# Altium schematic symbol library CustomizedLib.SchLib: 16 symbols
Pins are listed as number, name and electrical type; pins without a type are passive.

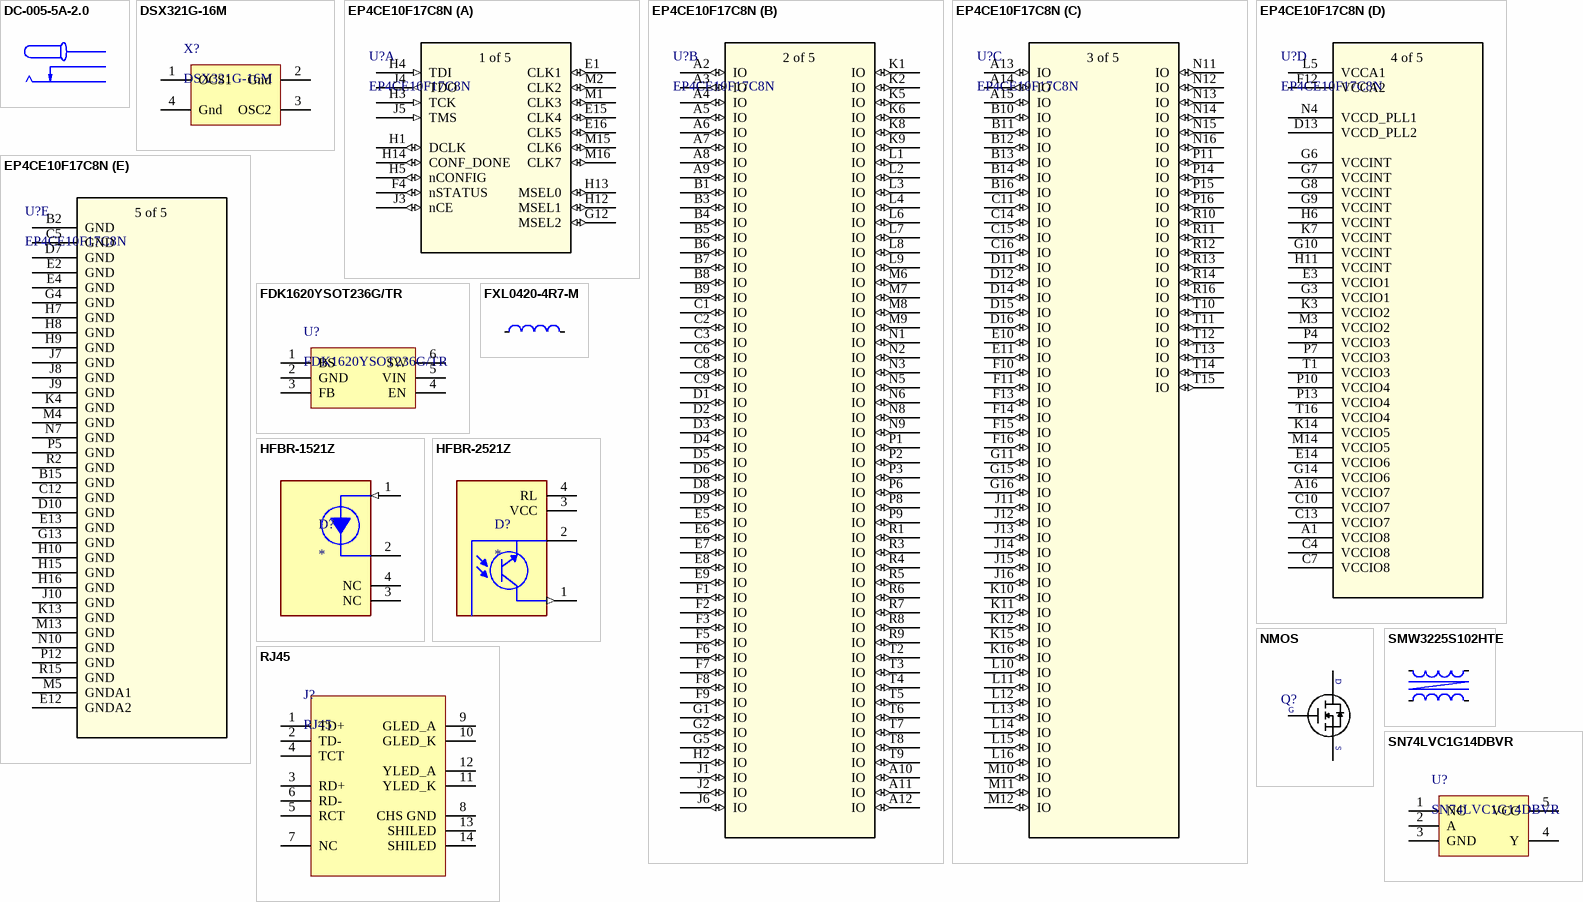
[diagram p0: symbols DC-005-5A-2.0 to SN74LVC1G14DBVR]

## DC-005-5A-2.0
designator DC??  (value not drawn)
Manufacturer: XKB Connection(中国星坤); Add into BOM: yes; Connector Type: DC电源插座; Inside Contact Diameter: 2mm; Outside Contact Diameter: 6.2mm; Current Rating (Max): 5A; Voltage Rating (Max): 24V; Symbol: DC-005-5A-2.0; Device: DC-005-5A-2.0; LCSC Part Name: DC电源插座 内径:2mm 外径:6.2mm; Supplier Part: C381116; Manufacturer Part: DC-005-5A-2.0; Supplier Footprint: 插件; JLCPCB Part Class: Extended Part; Datasheet: https://atta.szlcsc.com/upload/public/pdf/source/20211015/707A35F7AB6E89C57AAB641950105BB7.pdf; Supplier: LCSC; Convert to PCB: yes; Mounting Style: 弯插; Operating Temperature Range: -20℃~+70℃
footprint DC-IN-TH_DC-005-5A-2.0
pins: 1, 2, 3

## DSX321G-16M
designator X?
无源晶振
footprint SMD3225-4 (Diode, Dual Flat No-Lead, 0.75 mm Pitch, 4 pin; 1.20 mm L X 0.775 mm W X 0.40 mm H body)
pins: 1 OCS1, 2 Gnd, 3 OSC2, 4 Gnd

## EP4CE10F17C8N
designator U?
No Description Available; Manufacturer_Name: Intel; Copyright: Copyright (C) 2025 Ultra Librarian. All rights reserved.; Manufacturer_Part_Number: EP4CE10F17C8N; RefDes: RefDes; Type: Type
footprint FBGA256
part A pins: E1 CLK1 (io), E15 CLK4 (io), E16 CLK5 (io), F4 nSTATUS (io), G12 MSEL2 (io), H1 DCLK (io), H3 TCK (in), H4 TDI (in), H5 nCONFIG (io), H12 MSEL1 (io), H13 MSEL0 (io), H14 CONF_DONE (io), J3 nCE (io), J4 TDO (out), J5 TMS (in), M1 CLK3 (io), M2 CLK2 (io), M15 CLK6 (io), M16 CLK7 (io)
part B pins: A2 IO (io), A3 IO (io), A4 IO (io), A5 IO (io), A6 IO (io), A7 IO (io), A8 IO (io), A9 IO (io), A10 IO (io), A11 IO (io), A12 IO (io), B1 IO (io), B3 IO (io), B4 IO (io), B5 IO (io), B6 IO (io), B7 IO (io), B8 IO (io), B9 IO (io), C1 IO (io), C2 IO (io), C3 IO (io), C6 IO (io), C8 IO (io), C9 IO (io), D1 IO (io), D2 IO (io), D3 IO (io), D4 IO (io), D5 IO (io), D6 IO (io), D8 IO (io), D9 IO (io), E5 IO (io), E6 IO (io), E7 IO (io), E8 IO (io), E9 IO (io), F1 IO (io), F2 IO (io), F3 IO (io), F5 IO (io), F6 IO (io), F7 IO (io), F8 IO (io), F9 IO (io), G1 IO (io), G2 IO (io), G5 IO (io), H2 IO (io), J1 IO (io), J2 IO (io), J6 IO (io), K1 IO (io), K2 IO (io), K5 IO (io), K6 IO (io), K8 IO (io), K9 IO (io), L1 IO (io), L2 IO (io), L3 IO (io), L4 IO (io), L6 IO (io), L7 IO (io), L8 IO (io), L9 IO (io), M6 IO (io), M7 IO (io), M8 IO (io), M9 IO (io), N1 IO (io), N2 IO (io), N3 IO (io), N5 IO (io), N6 IO (io), N8 IO (io), N9 IO (io), P1 IO (io), P2 IO (io), P3 IO (io), P6 IO (io), P8 IO (io), P9 IO (io), R1 IO (io), R3 IO (io), R4 IO (io), R5 IO (io), R6 IO (io), R7 IO (io), R8 IO (io), R9 IO (io), T2 IO (io), T3 IO (io), T4 IO (io), T5 IO (io), T6 IO (io), T7 IO (io), T8 IO (io), T9 IO (io)
part C pins: A13 IO (io), A14 IO (io), A15 IO (io), B10 IO (io), B11 IO (io), B12 IO (io), B13 IO (io), B14 IO (io), B16 IO (io), C11 IO (io), C14 IO (io), C15 IO (io), C16 IO (io), D11 IO (io), D12 IO (io), D14 IO (io), D15 IO (io), D16 IO (io), E10 IO (io), E11 IO (io), F10 IO (io), F11 IO (io), F13 IO (io), F14 IO (io), F15 IO (io), F16 IO (io), G11 IO (io), G15 IO (io), G16 IO (io), J11 IO (io), J12 IO (io), J13 IO (io), J14 IO (io), J15 IO (io), J16 IO (io), K10 IO (io), K11 IO (io), K12 IO (io), K15 IO (io), K16 IO (io), L10 IO (io), L11 IO (io), L12 IO (io), L13 IO (io), L14 IO (io), L15 IO (io), L16 IO (io), M10 IO (io), M11 IO (io), M12 IO (io), N11 IO (io), N12 IO (io), N13 IO (io), N14 IO (io), N15 IO (io), N16 IO (io), P11 IO (io), P14 IO (io), P15 IO (io), P16 IO (io), R10 IO (io), R11 IO (io), R12 IO (io), R13 IO (io), R14 IO (io), R16 IO (io), T10 IO (io), T11 IO (io), T12 IO (io), T13 IO (io), T14 IO (io), T15 IO (io)
part D pins: A1 VCCIO8 (power), A16 VCCIO7 (power), C4 VCCIO8 (power), C7 VCCIO8 (power), C10 VCCIO7 (power), C13 VCCIO7 (power), D13 VCCD_PLL2 (power), E3 VCCIO1 (power), E14 VCCIO6 (power), F12 VCCA2 (power), G3 VCCIO1 (power), G6 VCCINT (power), G7 VCCINT (power), G8 VCCINT (power), G9 VCCINT (power), G10 VCCINT (power), G14 VCCIO6 (power), H6 VCCINT (power), H11 VCCINT (power), K3 VCCIO2 (power), K7 VCCINT (power), K14 VCCIO5 (power), L5 VCCA1 (power), M3 VCCIO2 (power), M14 VCCIO5 (power), N4 VCCD_PLL1 (power), P4 VCCIO3 (power), P7 VCCIO3 (power), P10 VCCIO4 (power), P13 VCCIO4 (power), T1 VCCIO3 (power), T16 VCCIO4 (power)
part E pins: B2 GND (power), B15 GND (power), C5 GND (power), C12 GND (power), D7 GND (power), D10 GND (power), E2 GND (power), E4 GND (power), E12 GNDA2 (power), E13 GND (power), G4 GND (power), G13 GND (power), H7 GND (power), H8 GND (power), H9 GND (power), H10 GND (power), H15 GND (power), H16 GND (power), J7 GND (power), J8 GND (power), J9 GND (power), J10 GND (power), K4 GND (power), K13 GND (power), M4 GND (power), M5 GNDA1 (power), M13 GND (power), N7 GND (power), N10 GND (power), P5 GND (power), P12 GND (power), R2 GND (power), R15 GND (power)
part A text: 1 of 5
part B text: 2 of 5
part C text: 3 of 5
part D text: 4 of 5
part E text: 5 of 5

## FDK1620YSOT236G/TR
designator U?
DC/DC Converter
footprint SOT23-6 (Small Outline Transistor, SOT-23 Type, 0.95 mm pitch; 6 pin, 2.92 mm L X 1.60 mm W X 1.25 mm H body)
pins: 1 BS, 2 GND, 3 FB, 4 EN, 5 VIN, 6 SW

## FXL0420-4R7-M
designator L?, comment 4.7uH  (value not drawn)
Manufacturer: cjiang(长江微电); Symbol: FXL0530-100-M; Add into BOM: yes; Value: 10uH; Tolerance: ±20%; Rated Current: 3.2A; Saturation Current (Isat): 3.5A; DC Resistance (DCR): 125mΩ; Type: 一体成型电感; Device: FXL0530-100-M; LCSC Part Name: 10uH ±20% 3.5A; Supplier Part: C177248; Manufacturer Part: FXL0530-100-M; Supplier Footprint: SMD,5.2x5.4mm; JLCPCB Part Class: Extended Part; Datasheet: https://atta.szlcsc.com/upload/public/pdf/source/20240426/3189EA8206330E2108542F9E34E540E7.pdf; Supplier: LCSC; Convert to PCB: yes
footprint L0420 (Inductor, Dual Flat No-Lead (DFN) 2 pins; 4.40 mm L X 4.20 mm W X 1.80 mm H body)
pins: 1, 2

## HFBR-1521Z
designator D?
Versatile Link Fiber-Optic Connection; MF: Broadcom Limited; MP: HFBR-2521Z; SnapEDA_Link: https://www.snapeda.com/parts/HFBR-2521Z/Broadcom/view-part/?ref=snap; Package: None; Value: *; Check_prices: https://www.snapeda.com/parts/HFBR-2521Z/Broadcom/view-part/?ref=eda
footprint HFBR_1521Z (Footprint not found)
pins: 1 VO (in), 2 GROUND (power), 3 NC (power), 4 NC

## HFBR-2521Z
designator D?
Versatile Link Fiber-Optic Connection; MF: Broadcom Limited; MP: HFBR-2521Z; SnapEDA_Link: https://www.snapeda.com/parts/HFBR-2521Z/Broadcom/view-part/?ref=snap; Package: None; Value: *; Check_prices: https://www.snapeda.com/parts/HFBR-2521Z/Broadcom/view-part/?ref=eda
footprint HFBR_2521Z (Footprint not found)
pins: 1 VO (out), 2 GROUND (power), 3 VCC (power), 4 RL

## NMOS
designator Q?
footprint SOT23-3 (Small Outline Transistor, SOT-23 Type, 0.95 mm pitch; 3 pin, 2.90 mm L X 1.30 mm W X 1.15 mm H body)
pins: 1, 2, 3
text: D; G; S

## RJ45
designator J?
HR911105A HANREN
footprint 1105A_HAN
pins: 1 TD+, 2 TD-, 3 RD+, 4 TCT, 5 RCT, 6 RD-, 7 NC, 8 CHS GND, 9 GLED_A, 10 GLED_K, 11 YLED_K, 12 YLED_A, 13 SHILED, 14 SHILED

## SMW3225S102HTE
designator L?  (value not drawn)
1.2A; Manufacturer: cjiang(长江微电); Symbol: FXL0530-100-M; Add into BOM: yes; Value: 10uH; Tolerance: ±20%; Rated Current: 3.2A; Saturation Current (Isat): 3.5A; DC Resistance (DCR): 125mΩ; Type: 一体成型电感; Device: FXL0530-100-M; LCSC Part Name: 10uH ±20% 3.5A; Supplier Part: C177248; Manufacturer Part: FXL0530-100-M; Supplier Footprint: SMD,5.2x5.4mm; JLCPCB Part Class: Extended Part; Datasheet: https://atta.szlcsc.com/upload/public/pdf/source/20240426/3189EA8206330E2108542F9E34E540E7.pdf; Supplier: LCSC; Convert to PCB: yes
footprint INDDFN4_320X250X240L65X80N (Inductor, Dual Flat No-Lead (DFN) 4 pins, 2.55 mm pitch; 3.20 mm L X 2.50 mm W X 2.40 mm H body)
pins: 1, 2, 3, 4

## SN74LVC1G14DBVR
designator U?
Y=A\
footprint SOT23-5 (Small Outline Transistor, SOT-23 Type, 0.95 mm pitch; 5 pin, 2.90 mm L X 1.60 mm W X 1.45 mm H body)
pins: 1 NC, 2 A, 3 GND, 4 Y, 5 VCC

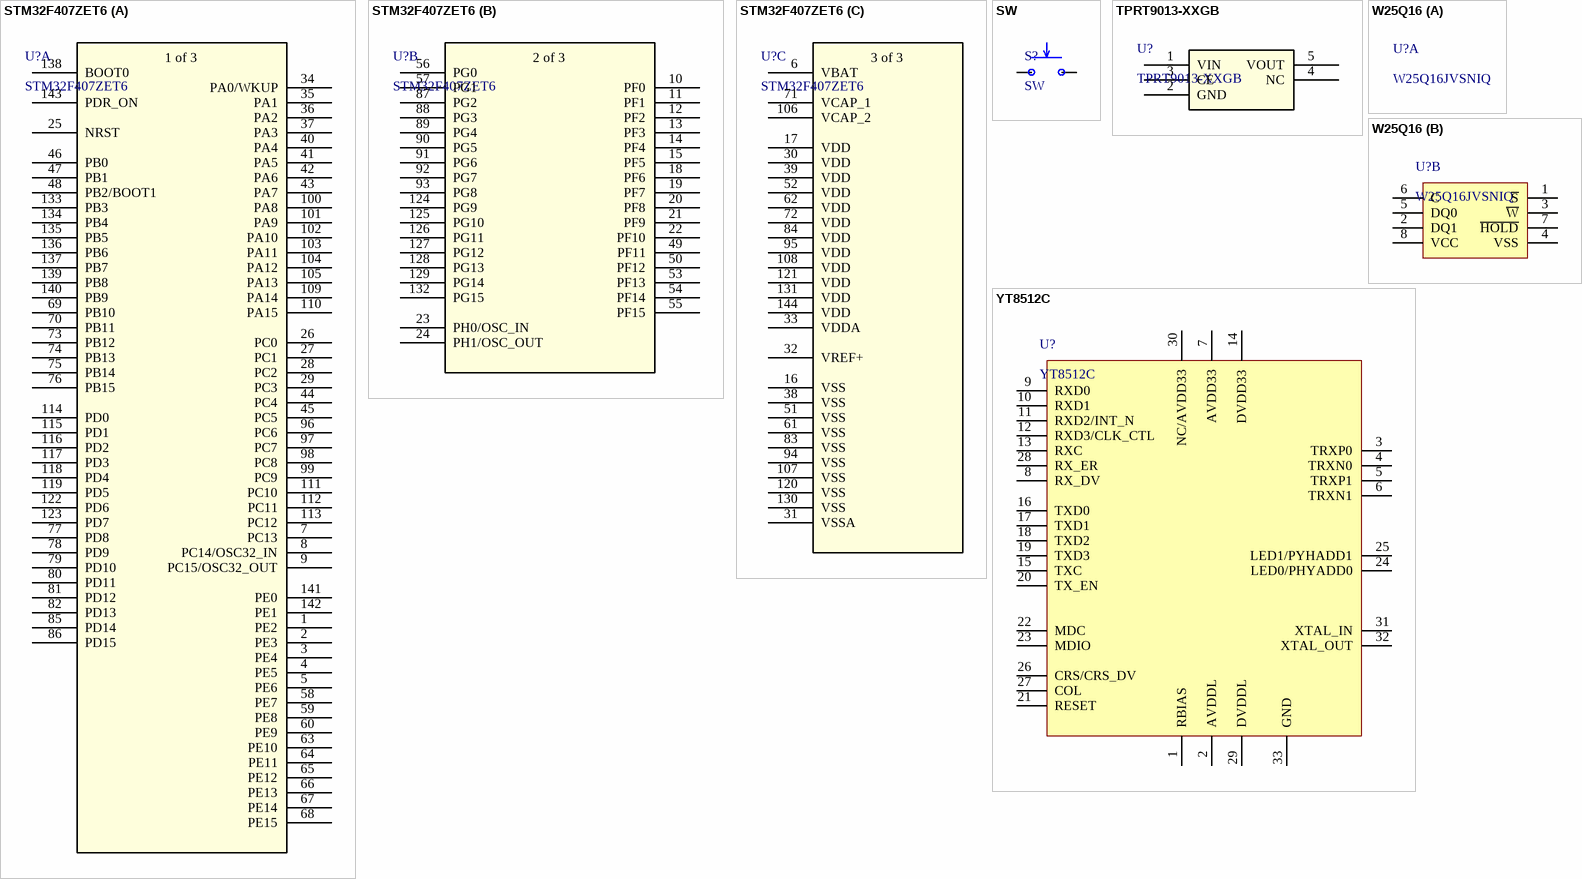
[diagram p1: symbols STM32F407ZET6 to YT8512C]

## STM32F407ZET6
designator U?
High-performance foundation line, Arm Cortex-M4 core with DSP and FPU, 512 Kbytes of Flash memory, 168 MHz CPU, ART Accelerator, Ethernet, FSMC; Manufacturer_Name: STMicroelectronics; Copyright: Copyright (C) 2025 Ultra Librarian. All rights reserved.; Manufacturer_Part_Number: STM32F407ZET6; Datasheet: https://www.st.com/resource/en/datasheet/stm32f405rg.pdf; RefDes: RefDes; Type: Type
footprint LQFP144-20x20mm
part A pins: 1 PE2, 2 PE3, 3 PE4, 4 PE5, 5 PE6, 7 PC13, 8 PC14/OSC32_IN, 9 PC15/OSC32_OUT, 25 NRST, 26 PC0, 27 PC1, 28 PC2, 29 PC3, 34 PA0/WKUP, 35 PA1, 36 PA2, 37 PA3, 40 PA4, 41 PA5, 42 PA6, 43 PA7, 44 PC4, 45 PC5, 46 PB0, 47 PB1, 48 PB2/BOOT1, 58 PE7, 59 PE8, 60 PE9, 63 PE10, 64 PE11, 65 PE12, 66 PE13, 67 PE14, 68 PE15, 69 PB10, 70 PB11, 73 PB12, 74 PB13, 75 PB14, 76 PB15, 77 PD8, 78 PD9, 79 PD10, 80 PD11, 81 PD12, 82 PD13, 85 PD14, 86 PD15, 96 PC6, 97 PC7, 98 PC8, 99 PC9, 100 PA8, 101 PA9, 102 PA10, 103 PA11, 104 PA12, 105 PA13, 109 PA14, 110 PA15, 111 PC10, 112 PC11, 113 PC12, 114 PD0, 115 PD1, 116 PD2, 117 PD3, 118 PD4, 119 PD5, 122 PD6, 123 PD7, 133 PB3, 134 PB4, 135 PB5, 136 PB6, 137 PB7, 138 BOOT0, 139 PB8, 140 PB9, 141 PE0, 142 PE1, 143 PDR_ON
part B pins: 10 PF0, 11 PF1, 12 PF2, 13 PF3, 14 PF4, 15 PF5, 18 PF6, 19 PF7, 20 PF8, 21 PF9, 22 PF10, 23 PH0/OSC_IN, 24 PH1/OSC_OUT, 49 PF11, 50 PF12, 53 PF13, 54 PF14, 55 PF15, 56 PG0, 57 PG1, 87 PG2, 88 PG3, 89 PG4, 90 PG5, 91 PG6, 92 PG7, 93 PG8, 124 PG9, 125 PG10, 126 PG11, 127 PG12, 128 PG13, 129 PG14, 132 PG15
part C pins: 6 VBAT (power), 16 VSS (power), 17 VDD (power), 30 VDD (power), 31 VSSA (power), 32 VREF+ (power), 33 VDDA (power), 38 VSS (power), 39 VDD (power), 51 VSS (power), 52 VDD (power), 61 VSS (power), 62 VDD (power), 71 VCAP_1 (power), 72 VDD (power), 83 VSS (power), 84 VDD (power), 94 VSS (power), 95 VDD (power), 106 VCAP_2 (power), 107 VSS (power), 108 VDD (power), 120 VSS (power), 121 VDD (power), 130 VSS (power), 131 VDD (power), 144 VDD (power)
part A text: 1 of 3
part B text: 2 of 3
part C text: 3 of 3

## SW
designator S?
footprint SW-SMD (L6.0-W3.3-LS8.0)
pins: 1, 2

## TPRT9013-XXGB
designator U?
No Description Available; Manufacturer_Name: Tech Public; Manufacturer_Part_Number: TPRT9013-33GB; Type: Power Management; Copyright: Copyright (C) 2025 Ultra Librarian. All rights reserved.; RefDes: RefDes
footprint SOT23-5
pins: 1 VIN (power), 2 GND (power), 3 CE, 4 NC, 5 VOUT (power)

## W25Q16
designator U?, comment W25Q16JVSNIQ
footprint SOIC8 (Small Outline Pkg (SOP), 0.65 mm pitch; 24 pin, 7.80 mm L X 4.40 mm W X 1.20 mm H body)
part B pins: 1 ~{S}, 2 DQ1, 3 ~{W}, 4 VSS, 5 DQ0, 6 C, 7 ~{HOLD}, 8 VCC

## YT8512C
designator U?
PHY
footprint QFN32 (Quad Flat No-Lead (QFN) with Thermal Tab, 0.50 mm pitch;  rect., 8 pin X 6 pin, 5.00 mm L X 4.00 mm W X 0.80 mm H body)
pins: 1 RBIAS, 2 AVDDL, 3 TRXP0, 4 TRXN0, 5 TRXP1, 6 TRXN1, 7 AVDD33, 8 RX_DV, 9 RXD0, 10 RXD1, 11 RXD2/INT_N, 12 RXD3/CLK_CTL, 13 RXC, 14 DVDD33, 15 TXC, 16 TXD0, 17 TXD1, 18 TXD2, 19 TXD3, 20 TX_EN, 21 RESET, 22 MDC, 23 MDIO, 24 LED0/PHYADD0, 25 LED1/PYHADD1, 26 CRS/CRS_DV, 27 COL, 28 RX_ER, 29 DVDDL, 30 NC/AVDD33, 31 XTAL_IN, 32 XTAL_OUT, 33 GND